# Altium footprint library ESP12s.PcbLib: 1 footprints
Each footprint in its own frame and in the unit in brackets; x right, y up, seen from the top. Pads: shape width x height; smd on the part's side, far side on the other; paste and mask are expansions set on the pad; w line width, h text height; cw(c..) or ccw(c..) is an arc to the next point about the centre after c.
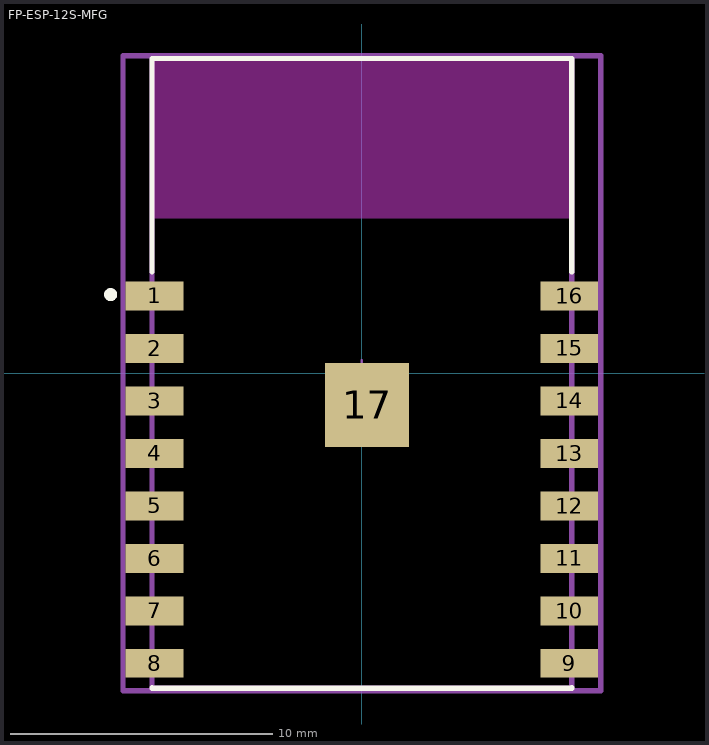
[diagram p0: the footprint, top view; thin cyan lines are the x and y axes]

## FP-ESP-12S-MFG [mm]
pads (17):
  rect 2.2x1.1 smd paste+0 mask+0: 1(-7.9,2.95) 2(-7.9,0.95) 3(-7.9,-1.05) 4(-7.9,-3.05) 5(-7.9,-5.05) 6(-7.9,-7.05) 7(-7.9,-9.05) 8(-7.9,-11.05) 9(7.9,-11.05) 10(7.9,-9.05) 11(7.9,-7.05) 12(7.9,-5.05) 13(7.9,-3.05) 14(7.9,-1.05) 15(7.9,0.95) 16(7.9,2.95)
  rect 3.2x3.2 smd paste+0 mask+0: 17(0.2,-1.2)
Top Overlay:
  circle w0.25: c-9.575,3 r0.125
  lines w0.2: -8,-11.975 -8,-12 8,-12 8,-11.975 ; -8,3.875 -8,12 8,12 8,3.875
Keep-Out Layer:
  rectangle: -8,5.9 8,12
  rectangle: -8,5.9 8,12
Top Assembly:
  lines w0.2: -9.1,-12.1 -9.1,12.1 9.1,12.1 9.1,-12.1 -9.1,-12.1
  text ".Designator" at 0,0.188 h1
Top 3D Body:
  lines w0.2: -8,-12 -8,12 8,12 8,-12 -8,-12
Top Courtyard:
  lines w0.2: -9.1,-12.1 -9.1,12.1 9.1,12.1 9.1,-12.1 -9.1,-12.1
Top Component Center:
  lines w0.1: -0.5,0 0.5,0 ; 0,-0.5 0,0.5
3D body "UNK_RF_Solutions_ESP-12S_eec.STEP": height 0.25, standoff 0, extent -9.1,-12.1 9.1,12.1